# EAGLE library part IR2125 (library janey)
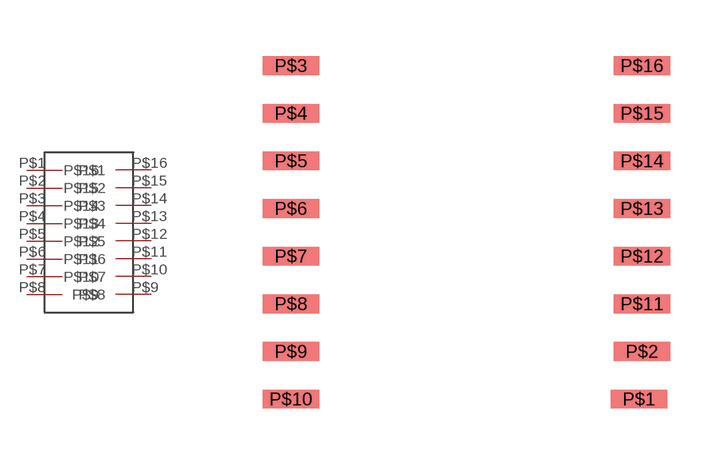
[diagram p0: symbol with the pads of SOIC16; footprint SOIC16]

Designator prefix -

## IR2125  [SOIC16]
P$1  P$1
P$2  P$2
P$3  P$3
P$4  P$4
P$5  P$5
P$6  P$6
P$7  P$7
P$8  P$8
P$9  P$9
P$10  P$10
P$11  P$11
P$12  P$12
P$13  P$13
P$14  P$14
P$15  P$15
P$16  P$16

## Footprint SOIC16 (pad centres in mm)
smd 1.5 x 0.5: P$1 8,0; P$2 8.08,1.27; P$3 -1.27,8.89; P$4 -1.27,7.62; P$5 -1.27,6.35; P$6 -1.27,5.08; P$7 -1.27,3.81; P$8 -1.27,2.54; P$9 -1.27,1.27; P$10 -1.27,0; P$11 8.08,2.54; P$12 8.08,3.81; P$13 8.08,5.08; P$14 8.08,6.35; P$15 8.08,7.62; P$16 8.08,8.89